# Altium footprint library MOLEX_0470531000.PcbLib: 1 footprints
Each footprint in its own frame and in the unit in brackets; x right, y up, seen from the top. Pads: shape width x height; smd on the part's side, far side on the other; paste and mask are expansions set on the pad; w line width, h text height; cw(c..) or ccw(c..) is an arc to the next point about the centre after c.
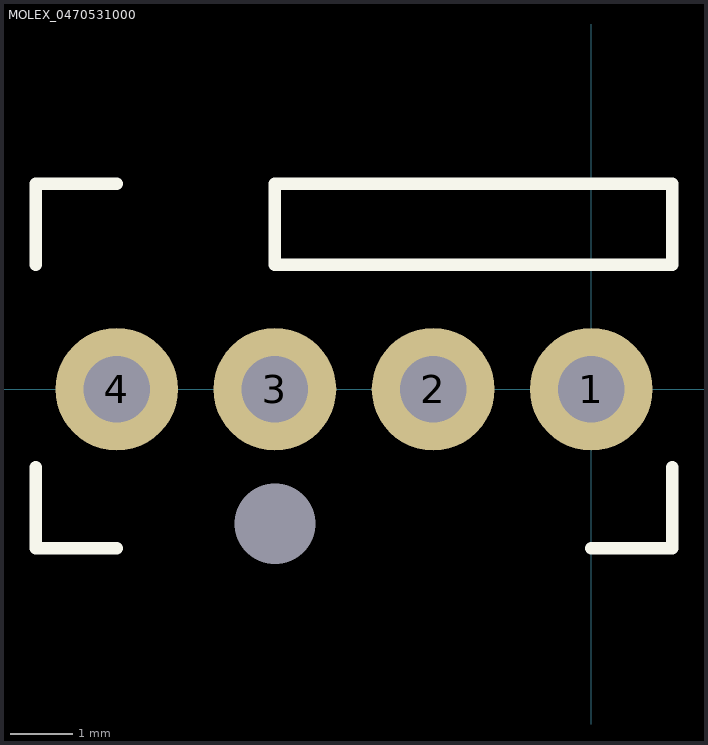
[diagram p0: the footprint, top view; thin cyan lines are the x and y axes]

## MOLEX_0470531000 [mm] "Molex 4-Pos Header 0470531000"
pads (5):
  round 0 hole 1.3 unplated: 0(-5.08,-2.16)
  round 1.97 hole 1.07: 1(0,0) 2(-2.54,0) 3(-5.08,0) 4(-7.62,0)
Top Overlay:
  lines w0.2: -8.92,-1.25 -8.92,-2.55 -7.62,-2.55 ; -8.92,2 -8.92,3.3 -7.62,3.3 ; 0,-2.55 1.3,-2.55 1.3,-1.25 ; -5.08,2 1.3,2 1.3,3.3 -5.08,3.3 -5.08,2
3D body "470531000.stp": height 10, standoff -3.5, extent -8.91,-2.54 1.29,3.3